# Altium footprint library Diode Footprints.PcbLib: 32 footprints (part 1 of 2)
Each footprint in its own frame and in the unit in brackets; x right, y up, seen from the top. Pads: shape width x height; smd on the part's side, far side on the other; paste and mask are expansions set on the pad; w line width, h text height; cw(c..) or ccw(c..) is an arc to the next point about the centre after c.
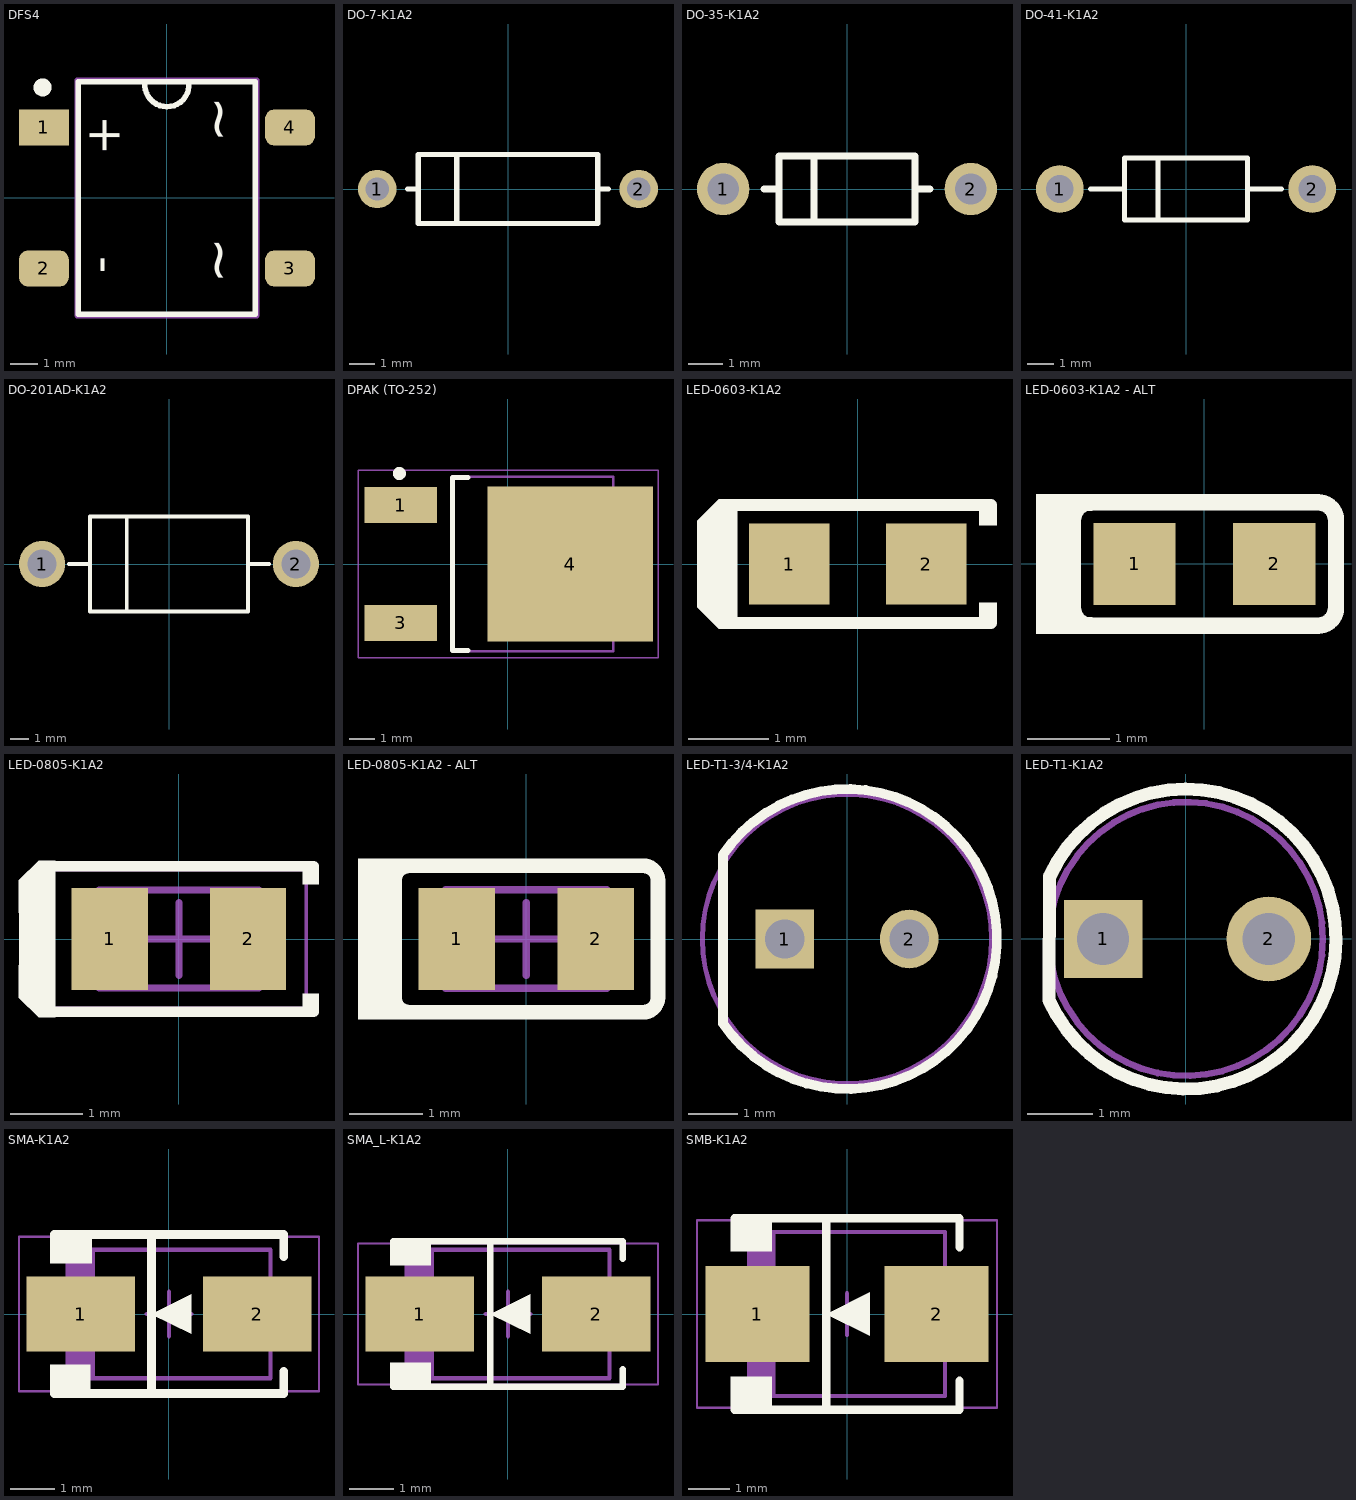
[diagram p0: the footprints below, top view; thin cyan lines are the x and y axes]

## DFS4 [mm]
pads (4):
  rect 1.8x1.3 smd: 1(-4.45,2.55)
  rrect50% 1.8x1.3 smd: 2(-4.45,-2.55) 3(4.45,-2.55) 4(4.45,2.55)
Top Overlay:
  circle w0.4: c-4.5,4 r0.125
  lines w0.2: -0.796,4.18 ccw(c0,4.1) 0.797,4.172 ; -3.2,-4.2 3.2,-4.2 3.2,4.2 -3.2,4.2 -3.2,-4.2
  text "~" at 3,-3.1 h2.5
  text "+" at -2.8,3 h1.27
  text "-" at -2.8,-2.1 h1.27
  text "~" at 3,2 h2.5
Mechanical 13:
  lines w0.2: -3.25,-4.25 -3.25,4.25 3.25,4.25 3.25,-4.25 -3.25,-4.25
3D body: height 2.6, standoff 0, extent -3.25,-4.25 3.25,4.25

## DO-7-K1A2 [mm] "Diode, Axial; Body 7 x 2.7 mm (LxDia. max), Lead Dia. 0.53 mm (max)"
height 2.7
pads (2):
  round 1.5 hole 0.9: 1(-5.1,0) 2(5.1,0)
Top Overlay:
  lines w0.2: -3.925,0 -3.5,0 ; -2,-1.3 -2,1.35 ; 3.5,0 3.925,0 ; -3.5,-1.35 3.5,-1.35 3.5,1.35 -3.5,1.35 -3.5,-1.35

## DO-35-K1A2 [mm] "Diode, Axial; Body 3.8 x 1.9 mm (LxDia. max), Lead Dia. 0.53 mm (max)"
height 1.9
pads (2):
  round 1.5 hole 0.9: 1(-3.55,0) 2(3.55,0)
Top Overlay:
  lines w0.2: -2.375,0 -1.95,0 ; -0.95,-0.95 -0.95,0.95 ; 1.95,0 2.375,0 ; -1.95,-0.95 1.95,-0.95 1.95,0.95 -1.95,0.95 -1.95,-0.95

## DO-41-K1A2 [mm] "AXIAL, 2-Leads, Diameter 2.35mm"
height 2.35
pads (2):
  round 1.8 hole 1.05: 1(-4.77,0) 2(4.77,0)
Top Overlay:
  lines w0.2: -3.595,0 -2.325,0 ; -1.055,-1.175 -1.055,1.175 ; 2.325,0 3.595,0 ; -2.325,-1.175 2.325,-1.175 2.325,1.175 -2.325,1.175 -2.325,-1.175

## DO-201AD-K1A2 [mm] "AXIAL, 2-Leads, Diameter 5.05mm"
height 5.05
pads (2):
  round 2.45 hole 1.55: 1(-6.745,0) 2(6.745,0)
Top Overlay:
  lines w0.2: -5.32,0 -4.2,0 ; -2.25,-2.5 -2.25,2.5 ; 4.2,0 5.32,0 ; -4.2,-2.525 4.2,-2.525 4.2,2.525 -4.2,2.525 -4.2,-2.525

## DPAK (TO-252) [mm] "D-PAK, 3-Pads, Body 6.21x6.73mm (max), IPC Medium Density"
height 2.38
pads (3):
  rect 2.8x1.4 smd: 1(-4.15,2.28) 3(-4.15,-2.28)
  rect 6.4x6 smd: 4(2.4,0)
Top Overlay:
  circle w0.25: c-4.2,3.5 r0.125
  lines w0.2: -1.55,-3.35 -2.15,-3.35 -2.15,3.35 -1.55,3.35
Mechanical 13:
  lines w0.1: -2.15,-3.375 4.07,-3.375 4.07,3.375 -2.15,3.375 -2.15,-3.375
Mechanical 15:
  lines w0.05: -5.8,-3.625 -5.8,3.625 5.8,3.625 5.8,-3.625 -5.8,-3.625
  lines w0.1: -0.5,0 0.5,0 ; 0,-0.5 0,0.5
3D body "User Library-DPAK-1.step": height 2.38, standoff -0.03, extent -4.795,-3.27 5.144,3.27

## LED-0603-K1A2 [mm] "SMD LED, 2-Leads, Body 1.6x0.8mm"
height 0.75
pads (2):
  rect 1x1 smd: 1(-0.85,0) 2(0.85,0)
Top Overlay:
  rectangle: 1.501,0.481 1.727,0.731
  rectangle: 1.501,-0.731 1.727,-0.481
  region: -1.998,-0.05 -1.998,0.537 -1.729,0.806 -1.499,0.806 -1.499,-0.05
  region: -1.998,0.05 -1.998,-0.537 -1.729,-0.806 -1.499,-0.806 -1.499,0.05
  lines w0.15: -1.699,-0.731 -1.549,-0.731 -1.249,-0.731 1.651,-0.731 ; -1.699,0.731 -1.549,0.731 -1.249,0.731 1.651,0.731
3D body: height 0.7, standoff 0, extent -0.301,-0.464 0.493,0.402
3D body: height 0.8, standoff 0, extent -0.502,-0.533 0.668,0.533
3D body: height 0.5, standoff 0, extent -0.925,-0.535 -0.5,0.535
3D body: height 0.5, standoff 0, extent 0.664,-0.532 1.089,0.532

## LED-0603-K1A2 - ALT [mm] "SMD LED, 2-Leads, Body 1.6x0.8mm"
height 0.75
pads (2):
  rect 1x1 smd: 1(-0.85,0) 2(0.85,0)
Top Overlay:
  rectangle: -1.782,0.665 -1.132,0.851
  rectangle: -2.05,-0.851 -1.516,0.851
  rectangle: -1.782,-0.851 -1.198,-0.686
  lines w0.2: -1.386,-0.749 1.386,-0.749 ccw(c1.386,-0.533) 1.602,-0.533 1.602,0.533 ccw(c1.386,0.533) 1.386,0.749 -1.386,0.749
  lines w0.203: -1.386,-0.749 cw(c-1.386,-0.533) -1.602,-0.533 -1.602,0.533 cw(c-1.386,0.533) -1.386,0.749
3D body: height 0.7, standoff 0, extent -0.301,-0.464 0.493,0.402
3D body: height 0.8, standoff 0, extent -0.502,-0.533 0.668,0.533
3D body: height 0.5, standoff 0, extent -0.925,-0.535 -0.5,0.535
3D body: height 0.5, standoff 0, extent 0.664,-0.532 1.089,0.532

## LED-0805-K1A2 [mm] "SMD LED, 2-Leads, Body 2.0x1.25mm"
height 0.75
pads (2):
  rect 1.05x1.4 smd: 1(-0.95,0) 2(0.95,0)
Top Overlay:
  rectangle: 1.7,0.75 1.926,1
  rectangle: 1.7,-1 1.926,-0.75
  region: -2.199,-0.1 -2.199,0.807 -1.931,1.075 -1.7,1.075 -1.7,-0.1
  region: -2.199,0.1 -2.199,-0.807 -1.931,-1.075 -1.7,-1.075 -1.7,0.1
  lines w0.15: -1.9,-1 -1.75,-1 -1.45,-1 1.85,-1 ; -1.9,1 -1.75,1 -1.45,1 1.85,1
Mechanical 13:
  lines w0.1: -1.1,-0.675 -1.1,0.675 1.1,0.675 1.1,-0.675 -1.1,-0.675
Mechanical 15:
  lines w0.05: -1.75,-0.95 -1.75,0.95 1.75,0.95 1.75,-0.95 -1.75,-0.95
  lines w0.1: -0.5,0 0.5,0 ; 0,-0.5 0,0.5
3D body: height 0.7, standoff 0, extent -0.525,-0.462 0.525,0.463
3D body: height 0.5, standoff 0, extent 0.68,-0.675 1.1,0.675
3D body: height 0.8, standoff 0, extent -0.68,-0.675 0.68,0.675
3D body: height 0.5, standoff 0, extent -1.1,-0.675 -0.68,0.675

## LED-0805-K1A2 - ALT [mm] "SMD LED, 2-Leads, Body 2.0x1.25mm"
height 0.75
pads (2):
  rect 1.05x1.4 smd: 1(-0.95,0) 2(0.95,0)
Top Overlay:
  rectangle: -2.3,-1.1 -1.7,1.1
  rectangle: -1.75,1.025 -1.6,1.1
  rectangle: -1.75,-1.1 -1.6,-1.025
  lines w0.2: -1.8,-0.8 ccw(c-1.6,-0.8) -1.6,-1 1.6,-1 ccw(c1.6,-0.8) 1.8,-0.8 1.8,0.8 ccw(c1.6,0.8) 1.6,1 -1.6,1 ccw(c-1.6,0.8) -1.8,0.8 -1.8,-0.775
Mechanical 13:
  lines w0.1: -1.1,-0.675 1.1,-0.675 1.1,0.675 -1.1,0.675 -1.1,-0.675
Mechanical 15:
  lines w0.05: -1.75,-0.95 1.75,-0.95 1.75,0.95 -1.75,0.95 -1.75,-0.95
  lines w0.1: -0.5,0 0.5,0 ; 0,-0.5 0,0.5
3D body: height 0.5, standoff 0, extent -1.1,-0.675 -0.68,0.675
3D body: height 0.8, standoff 0, extent -0.68,-0.675 0.68,0.675
3D body: height 0.5, standoff 0, extent 0.68,-0.675 1.1,0.675
3D body: height 0.7, standoff 0, extent -0.525,-0.462 0.525,0.463

## LED-T1-3/4-K1A2 [mm] "Through Hole LED, 2-Leads, Diameter 5mm, Lead Spacing 2.54mm"
height 8.9
pads (2):
  rect 1.2x1.2 hole 0.8: 1(-1.27,0)
  round 1.2 hole 0.8: 2(1.27,0)
Top Overlay:
  lines w0.2: -2.532,-1.721 -2.532,1.722 cw(c0,0) -2.528,-1.727
Mechanical 13:
  circle w0.1: c0,0 r2.953

## LED-T1-K1A2 [mm] "Through Hole LED, 2-Leads, Diameter 3mm, Lead Spacing 2.54mm"
height 5.55
pads (2):
  rect 1.2x1.2 hole 0.8: 1(-1.27,0)
  round 1.3 hole 0.8: 2(1.27,0)
Top Overlay:
  lines w0.2: -2.099,-0.939 ccw(c0,-0.001) -2.085,0.969 ; -2.098,-0.934 -2.092,0.966
Mechanical 13:
  circle w0.1: c0,0 r2.1

## PCBComponent_1 [mm]

## SMA-K1A2 [mm] "Molded Diode, 2-Leads, Body 4.30x2.60mm, IPC Medium Density"
height 2.4
pads (2):
  rect 2.45x1.7 smd: 1(-2,0) 2(2,0)
Top Overlay:
  region: -1.775,-1.15 -2.7,-1.15 -2.7,-1.8 -1.775,-1.8
  region: -1.75,1.8 -2.7,1.8 -2.7,1.15 -1.75,1.15
  region: -0.4,0 0.5,0.45 0.5,-0.45
  lines w0.2: -2.6,-1.8 2.6,-1.8 2.6,-1.3 ; -2.6,1.8 2.6,1.8 2.6,1.3 ; -0.4,-1.8 -0.4,1.8
Mechanical 13:
  region: -1.681,1.46 -2.3,1.46 -2.3,-1.46 -1.681,-1.46
  lines w0.1: -2.3,-1.46 2.3,-1.46 2.3,1.46 -2.3,1.46 -2.3,-1.46
Mechanical 15:
  lines w0.05: -3.4,-1.75 3.4,-1.75 3.4,1.75 -3.4,1.75 -3.4,-1.75
  lines w0.1: -0.5,0 0.5,0 ; 0,-0.5 0,0.5
3D body: height 2.5, standoff 2.4, extent -2.3,-1.46 -1.7,1.46
3D body: height 2.4, standoff 0, extent -2.3,-1.46 2.3,1.46

## SMA_L-K1A2 [mm] "Molded Diode, 2-Leads, Body 4.30x2.60mm, IPC High Density"
height 2.4
pads (2):
  rect 2.45x1.7 smd: 1(-2,0) 2(2,0)
Top Overlay:
  region: -1.75,1.661 -2.675,1.661 -2.675,1.1 -1.75,1.1
  region: -1.75,-1.1 -2.675,-1.1 -2.675,-1.661 -1.75,-1.661
  region: -0.4,0 0.5,0.45 0.5,-0.45
  lines w0.15: -2.6,-1.65 2.6,-1.65 2.6,-1.25 ; -2.6,1.65 2.6,1.65 2.6,1.25 ; -0.4,-1.65 -0.4,1.65
Mechanical 13:
  region: -1.681,1.46 -2.3,1.46 -2.3,-1.46 -1.681,-1.46
  lines w0.1: -2.3,-1.46 2.3,-1.46 2.3,1.46 -2.3,1.46 -2.3,-1.46
Mechanical 15:
  lines w0.05: -3.4,-1.6 3.4,-1.6 3.4,1.6 -3.4,1.6 -3.4,-1.6
  lines w0.1: -0.5,0 0.5,0 ; 0,-0.5 0,0.5
3D body: height 2.5, standoff 2.4, extent -2.3,-1.46 -1.7,1.46
3D body: height 2.4, standoff 0, extent -2.3,-1.46 2.3,1.46

## SMB-K1A2 [mm] "Molded Diode, 2-Leads, Body 4.35x3.62mm, IPC Medium Density"
height 2.5
pads (2):
  rect 2.5x2.3 smd: 1(-2.15,0) 2(2.15,0)
Top Overlay:
  region: -1.8,-1.5 -2.8,-1.5 -2.8,-2.3 -1.8,-2.3
  region: -1.8,2.3 -2.8,2.3 -2.8,1.5 -1.8,1.5
  region: -0.5,0 0.55,0.525 0.55,-0.525
  lines w0.2: -2.7,-2.3 2.7,-2.3 2.7,-1.6 ; -2.7,2.3 2.7,2.3 2.7,1.6 ; -0.5,-2.3 -0.5,2.275
Mechanical 13:
  region: -1.718,1.97 -2.35,1.97 -2.35,-1.97 -1.718,-1.97
  lines w0.1: -2.35,-1.97 2.35,-1.97 2.35,1.97 -2.35,1.97 -2.35,-1.97
Mechanical 15:
  lines w0.05: -3.6,-2.25 3.6,-2.25 3.6,2.25 -3.6,2.25 -3.6,-2.25
  lines w0.1: -0.5,0 0.5,0 ; 0,-0.5 0,0.5
3D body: height 2.6, standoff 2.5, extent -2.35,-1.97 -1.7,1.97
3D body: height 2.5, standoff 0, extent -2.35,-1.97 2.35,1.97